# Altium schematic symbol library Capacitor_0603.SchLib: 60 symbols (part 1 of 2)
Pins are listed as number, name and electrical type; pins without a type are passive.

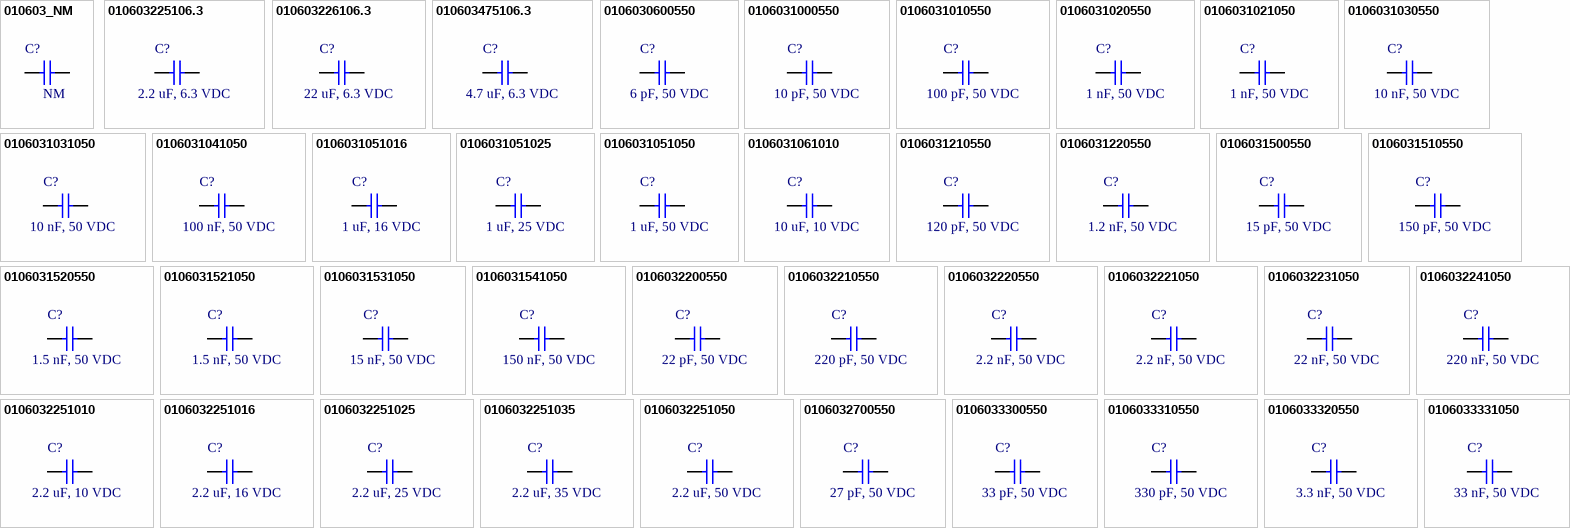
[diagram p0: symbols 010603_NM to 0106033331050]

## 010603_NM
designator C?, comment NM
CAP, size 0603, NM, N/A; Packaging: Tape and Reel; Capacitance: N/A; Supplier 1 URL: N/A; Supplier 2 URL: N/A; Supplier 3 URL: N/A; Tolerance: N/A; Voltage Rating DC: N/A; Value: NM; Supplier 1: N/A; Supplier 1 Part Number: N/A; Supplier 2: N/A; Supplier 2 Part Number: N/A; Supplier 3: thegioiic; Supplier 3 Part Number: N/A; Manufacturer: N/A; Manufacturer Part Number: N/A; ComponentLink1Description: Datasheet; ComponentLink1URL: N/A; Mount: SMD/SMT; Operating Temperature Max: + 85 C; Operating Temperature Min: - 40 C; Package / Case: 0603; LCSC Part #: N/A
footprint CAP_0603 (Chip Capacitor, 2-Leads, Body 1.80x0.80mm, IPC Medium Density)
pins: 1, 2

## 010603225106.3
designator C?, comment 2.2 uF, 6.3 VDC
CAP, size 0603, 2.2 uF, 6.3 VDC, 10%; Manufacturer: Samsung Electro-Mechanics; Manufacturer Part Number: CL10B225KQ8NNNC; Capacitance: 2.2 uF; Tolerance: +/-10%; Voltage Rating DC: 6.3 VDC; Value: 2.2 uF; Packaging: Tape and Reel; Supplier 1 URL: https://www.mouser.vn/ProductDetail/Samsung-Electro-Mechanics/CL10B225KQ8NNNC?qs=349EhDEZ59rhKTQnNCSlcg%3D%3D&utm_source=mouser-refine-download&utm_medium=file&utm_campaign=CL10B225KQ8NNNC&utm_content=Samsung-Electro-Mechanics; Supplier 2 URL: https://www.digikey.com/en/products/detail/samsung-electro-mechanics/cl10b225kq8nnnc/3887676; Supplier 3 URL: N/A; Supplier 1: Mouser; Supplier 1 Part Number: 187-CL10B225KQ8NNNC; Supplier 2: Digi-Key; Supplier 2 Part Number: 1276-2018-2-ND; Supplier 3: thegioiic; Supplier 3 Part Number: N/A; ComponentLink1Description: Datasheet; ComponentLink1URL: https://www.mouser.vn/datasheet/2/585/MLCC-1837944.pdf; Mount: SMD/SMT; Operating Temperature Max: + 85 C; Operating Temperature Min: - 40 C; Package / Case: 0603; LCSC Part #: N/A
footprint CAP_0603
signal-integrity model CapModel
simulation model C_Capacitor_Default (Model Description)
pins: 1, 2

## 010603226106.3
designator C?, comment 22 uF, 6.3 VDC
CAP, size 0603, 22 uF, 6.3 VDC, 10%; Manufacturer: Samsung Electro-Mechanics; Manufacturer Part Number: CL10A226KQ8NRNE; Capacitance: 22 uF; Tolerance: +/-10%; Voltage Rating DC: 6.3 VDC; Value: 22 uF; Packaging: Tape and Reel; Supplier 1 URL: https://www.mouser.vn/ProductDetail/Samsung-Electro-Mechanics/CL10A226KQ8NRNE?qs=NrXEK%2Fuukt63rpgsAsB8kg%3D%3D&utm_source=mouser-refine-download&utm_medium=file&utm_campaign=CL10A226KQ8NRNE&utm_content=Samsung-Electro-Mechanics; Supplier 2 URL: https://www.digikey.com/en/products/detail/samsung-electro-mechanics/cl10a226kq8nrne/3888525; Supplier 3 URL: N/A; Supplier 1: Mouser; Supplier 1 Part Number: 187-CL10A226KQ8NRNE; Supplier 2: Digi-Key; Supplier 2 Part Number: 1276-2867-2-ND; Supplier 3: thegioiic; Supplier 3 Part Number: N/A; ComponentLink1Description: Datasheet; ComponentLink1URL: https://www.mouser.vn/datasheet/2/585/MLCC-1837944.pdf; Mount: SMD/SMT; Operating Temperature Max: + 85 C; Operating Temperature Min: - 40 C; Package / Case: 0603; LCSC Part #: N/A
footprint CAP_0603
signal-integrity model CapModel
simulation model C_Capacitor_Default (Model Description)
pins: 1, 2

## 010603475106.3
designator C?, comment 4.7 uF, 6.3 VDC
CAP, size 0603, 4.7 uF, 6.3 VDC, 10%; Manufacturer: Samsung Electro-Mechanics; Manufacturer Part Number: CL10B475KQ8NQNC; Capacitance: 4.7 uF; Tolerance: +/-10%; Voltage Rating DC: 6.3 VDC; Value: 4.7 uF; Packaging: Tape and Reel; Supplier 1 URL: https://www.mouser.vn/ProductDetail/Samsung-Electro-Mechanics/CL10B475KQ8NQNC?qs=6tbHoouHnQxd6rcaSwpT7Q%3D%3D&utm_source=mouser-refine-download&utm_medium=file&utm_campaign=CL10B475KQ8NQNC&utm_content=Samsung-Electro-Mechanics; Supplier 2 URL: https://www.digikey.com/en/products/detail/samsung-electro-mechanics/cl10b475kq8nqnc/3887745; Supplier 3 URL: N/A; Supplier 1: Mouser; Supplier 1 Part Number: 187-CL10B475KQ8NQNC; Supplier 2: Digi-Key; Supplier 2 Part Number: 1276-2087-2-ND; Supplier 3: thegioiic; Supplier 3 Part Number: N/A; ComponentLink1Description: Datasheet; ComponentLink1URL: https://www.mouser.vn/datasheet/2/585/MLCC-1837944.pdf; Mount: SMD/SMT; Operating Temperature Max: + 85 C; Operating Temperature Min: - 40 C; Package / Case: 0603; LCSC Part #: N/A
footprint CAP_0603
signal-integrity model CapModel
simulation model C_Capacitor_Default (Model Description)
pins: 1, 2

## 0106030600550
designator C?, comment 6 pF, 50 VDC
CAP, size 0603, 6 pF, 50 VDC, 5%; Manufacturer: TDK; Manufacturer Part Number: CGA3E2NP01H060D080AA; Capacitance: 6 pF; Tolerance: +/-5%; Voltage Rating DC: 50 VDC; Value: 6 pF; Packaging: Tape and Reel; Supplier 1 URL: https://www.mouser.com/ProductDetail/TDK/CGA3E2NP01H060D080AA?qs=xLDY6iXSiQboN%2F6my%2FnNkQ%3D%3D&utm_source=mouser-refine-download&utm_medium=file&utm_campaign=CGA3E2NP01H060D080AA&utm_content=TDK; Supplier 2 URL: https://www.digikey.com/en/products/detail/tdk-corporation/cga3e2np01h060d080aa/3949663; Supplier 3 URL: N/A; Supplier 1: Mouser; Supplier 1 Part Number: 810-CGA3E2NP01H060DA; Supplier 2: Digi-Key; Supplier 2 Part Number: 445-12427-2-ND; Supplier 3: thegioiic; Supplier 3 Part Number: N/A; ComponentLink1Description: Datasheet; ComponentLink1URL: https://product.tdk.com/system/files/dam/doc/product/capacitor/ceramic/mlcc/catalog/mlcc_automotive_hightemp_en.pdf?ref_disty=mouser; Mount: SMD/SMT; Operating Temperature Max: + 85 C; Operating Temperature Min: - 40 C; Package / Case: 0603; LCSC Part #: N/A
footprint CAP_0603
signal-integrity model CapModel (Model Description)
simulation model C_Capacitor_Default (Model Description)
pins: 1, 2

## 0106031000550
designator C?, comment 10 pF, 50 VDC
CAP, size 0603, 10 pF, 50 VDC, 5%; Manufacturer: Samsung Electro-Mechanics; Manufacturer Part Number: CL10C100JB8NNNC; Capacitance: 10 pF; Tolerance: +/-5%; Voltage Rating DC: 50 VDC; Value: 10 pF; Packaging: Tape and Reel; Supplier 1 URL: https://www.mouser.vn/ProductDetail/Samsung-Electro-Mechanics/CL10C100JB8NNNC?qs=349EhDEZ59oiQHnsqhYH%2Fg%3D%3D; Supplier 2 URL: https://www.digikey.com/en/products/detail/samsung-electro-mechanics/cl10c100jb8nnnc/3886685?_gl=1*p9nbwi*_up*MQ..*_gs*MQ..&gclid=Cj0KCQiAi9rJBhCYARIsALyPDtvs-_MYtdCn0eZ4-At-85pl60JLecl7u4frgw5_LNfkKGjJD3xpc9AaAmGIEALw_wcB&gclsrc=aw.ds&gbraid=0AAAAADrbLlhn86auAEYHJNei1aMywzjur; Supplier 3 URL: N/A; Supplier 1: Mouser; Supplier 1 Part Number: 187-CL10C100JB8NNNC; Supplier 2: Digi-Key; Supplier 2 Part Number: 1276-1027-2-ND; Supplier 3: thegioiic; Supplier 3 Part Number: N/A; ComponentLink1Description: Datasheet; ComponentLink1URL: https://www.lcsc.com/datasheet/C1634.pdf; Mount: SMD/SMT; Operating Temperature Max: + 85 C; Operating Temperature Min: - 40 C; Package / Case: 0603; LCSC Part #: C1634
footprint CAP_0603
signal-integrity model CapModel (Model Description)
simulation model C_Capacitor_Default (Model Description)
pins: 1, 2

## 0106031010550
designator C?, comment 100 pF, 50 VDC
CAP, size 0603, 100 pF, 50 VDC, 5%; Manufacturer: Samsung Electro-Mechanics; Manufacturer Part Number: CL10C101JB8NNNC; Capacitance: 100 pF; Tolerance: +/-5%; Voltage Rating DC: 50 VDC; Value: 100 pF; Packaging: Tape and Reel; Supplier 1 URL: https://www.mouser.com/ProductDetail/Samsung-Electro-Mechanics/CL10C101JB8NNNC?qs=349EhDEZ59pXXooLigsK%2FQ%3D%3D; Supplier 2 URL: https://www.digikey.com/en/products/detail/samsung-electro-mechanics/cl10c101jb8nnnc/3886666; Supplier 3 URL: N/A; Supplier 1: Mouser; Supplier 1 Part Number: 187-CL10C101JB8NNNC; Supplier 2: Digi-Key; Supplier 2 Part Number: 1276-1008-2-ND; Supplier 3: thegioiic; Supplier 3 Part Number: N/A; ComponentLink1Description: Datasheet; ComponentLink1URL: https://www.lcsc.com/datasheet/C14858.pdf; Mount: SMD/SMT; Operating Temperature Max: + 85 C; Operating Temperature Min: - 40 C; Package / Case: 0603; LCSC Part #: C14858
footprint CAP_0603
signal-integrity model CapModel (Model Description)
simulation model C_Capacitor_Default (Model Description)
pins: 1, 2

## 0106031020550
designator C?, comment 1 nF, 50 VDC
CAP, size 0603, 1 nF, 50 VDC, 5%; Manufacturer: TDK; Manufacturer Part Number: CGA3E2NP01H102J080AA; Capacitance: 1 nF; Tolerance: +/-5%; Voltage Rating DC: 50 VDC; Value: 1 nF; Packaging: Tape and Reel; Supplier 1 URL: https://www.mouser.com/ProductDetail/TDK/CGA3E2NP01H102J080AA?qs=xLDY6iXSiQaozl9q8leaqQ%3D%3D&utm_source=mouser-refine-download&utm_medium=file&utm_campaign=CGA3E2NP01H102J080AA&utm_content=TDK; Supplier 2 URL: https://www.digikey.com/en/products/detail/tdk-corporation/cga3e2np01h102j080aa/3949621; Supplier 3 URL: N/A; Supplier 1: Mouser; Supplier 1 Part Number: 810-CGA3E2NP01H102JA; Supplier 2: Digi-Key; Supplier 2 Part Number: 445-12385-2-ND; Supplier 3: thegioiic; Supplier 3 Part Number: N/A; ComponentLink1Description: Datasheet; ComponentLink1URL: https://product.tdk.com/system/files/dam/doc/product/capacitor/ceramic/mlcc/catalog/mlcc_automotive_hightemp_en.pdf?ref_disty=mouser; Mount: SMD/SMT; Operating Temperature Max: + 85 C; Operating Temperature Min: - 40 C; Package / Case: 0603; LCSC Part #: N/A
footprint CAP_0603
signal-integrity model CapModel (Model Description)
simulation model C_Capacitor_Default (Model Description)
pins: 1, 2

## 0106031021050
designator C?, comment 1 nF, 50 VDC
CAP, size 0603, 1 nF, 50 VDC, 10%; Manufacturer: TDK; Manufacturer Part Number: CGA3E2X8R1H102K080AE; Capacitance: 1 nF; Tolerance: +/-10%; Voltage Rating DC: 50 VDC; Value: 1 nF; Packaging: Tape and Reel; Supplier 1 URL: https://www.mouser.com/ProductDetail/TDK/CGA3E2X8R1H102K080AE?qs=nQSIdc08i%252Bfmccrsr1TaaQ%3D%3D&utm_source=mouser-refine-download&utm_medium=file&utm_campaign=CGA3E2X8R1H102K080AE&utm_content=TDK; Supplier 2 URL: https://www.digikey.com/en/products/detail/tdk-corporation/cga3e2x8r1h102k080ae/5809329; Supplier 3 URL: N/A; Supplier 1: Mouser; Supplier 1 Part Number: 810-CGA3E2X8R1H102KA; Supplier 2: Digi-Key; Supplier 2 Part Number: 445-173764-2-ND; Supplier 3: thegioiic; Supplier 3 Part Number: N/A; ComponentLink1Description: Datasheet; ComponentLink1URL: https://product.tdk.com/system/files/dam/doc/product/capacitor/ceramic/mlcc/catalog/mlcc_automotive_soft_en.pdf?ref_disty=mouser; Mount: SMD/SMT; Operating Temperature Max: + 85 C; Operating Temperature Min: - 40 C; Package / Case: 0603; LCSC Part #: N/A
footprint CAP_0603
signal-integrity model CapModel
simulation model C_Capacitor_Default (Model Description)
pins: 1, 2

## 0106031030550
designator C?, comment 10 nF, 50 VDC
CAP, size 0603, 10 nF, 50 VDC, 5%; Manufacturer: TDK; Manufacturer Part Number: CGA3E2C0G1H103J080AE; Capacitance: 10 nF; Tolerance: +/-5%; Voltage Rating DC: 50 VDC; Value: 10 nF; Packaging: Tape and Reel; Supplier 1 URL: https://www.mouser.com/ProductDetail/TDK/CGA3E2C0G1H103J080AE?qs=P1JMDcb91o6ZkMITrWTUZQ%3D%3D&utm_source=mouser-refine-download&utm_medium=file&utm_campaign=CGA3E2C0G1H103J080AE&utm_content=TDK; Supplier 2 URL: https://www.digikey.com/en/products/detail/tdk-corporation/cga3e2c0g1h103j080ae/11697946; Supplier 3 URL: N/A; Supplier 1: Mouser; Supplier 1 Part Number: 810-CGA3E2C0G1H103J8; Supplier 2: Digi-Key; Supplier 2 Part Number: 445-CGA3E2C0G1H103J080AETR-ND; Supplier 3: thegioiic; Supplier 3 Part Number: N/A; ComponentLink1Description: Datasheet; ComponentLink1URL: https://product.tdk.com/system/files/dam/doc/product/capacitor/ceramic/mlcc/catalog/mlcc_automotive_soft_en.pdf?ref_disty=mouser; Mount: SMD/SMT; Operating Temperature Max: + 85 C; Operating Temperature Min: - 40 C; Package / Case: 0603; LCSC Part #: N/A
footprint CAP_0603
signal-integrity model CapModel (Model Description)
simulation model C_Capacitor_Default (Model Description)
pins: 1, 2

## 0106031031050
designator C?, comment 10 nF, 50 VDC
CAP, size 0603, 10 nF, 50 VDC, 10%; Manufacturer: TDK; Manufacturer Part Number: CGA3E2X8R1H103K080AA; Capacitance: 10 nF; Tolerance: +/-10%; Voltage Rating DC: 50 VDC; Value: 10 nF; Packaging: Tape and Reel; Supplier 1 URL: https://www.mouser.com/ProductDetail/TDK/CGA3E2X8R1H103K080AA?qs=NRhsANhppD89WrzFr8uamw%3D%3D&utm_source=mouser-refine-download&utm_medium=file&utm_campaign=CGA3E2X8R1H103K080AA&utm_content=TDK; Supplier 2 URL: https://www.digikey.com/en/products/detail/tdk-corporation/cga3e2x8r1h103k080aa/2443370; Supplier 3 URL: https://www.thegioiic.com/tu-gom-0603-10nf-50v; Supplier 1: Mouser; Supplier 1 Part Number: 810-CGA3E2X8R1H103K; Supplier 2: Digi-Key; Supplier 2 Part Number: 445-5892-2-ND; Supplier 3: thegioiic; Supplier 3 Part Number: N/A; ComponentLink1Description: Datasheet; ComponentLink1URL: https://product.tdk.com/system/files/dam/doc/product/capacitor/ceramic/mlcc/catalog/mlcc_automotive_hightemp_en.pdf?ref_disty=mouser; Mount: SMD/SMT; Operating Temperature Max: + 85 C; Operating Temperature Min: - 40 C; Package / Case: 0603; LCSC Part #: C100042
footprint CAP_0603
signal-integrity model CapModel
simulation model C_Capacitor_Default (Model Description)
pins: 1, 2

## 0106031041050
designator C?, comment 100 nF, 50 VDC
CAP, size 0603, 100 nF, 50 VDC, 10%; Manufacturer: TDK; Manufacturer Part Number: CGA3E3X8R1H104K080AE; Capacitance: 100 nF; Tolerance: +/-10%; Voltage Rating DC: 50 VDC; Value: 100 nF; Packaging: Tape and Reel; Supplier 1 URL: https://www.mouser.com/ProductDetail/TDK/CGA3E3X8R1H104K080AE?qs=nQSIdc08i%252Bd8g3IRRgU2bw%3D%3D&utm_source=mouser-refine-download&utm_medium=file&utm_campaign=CGA3E3X8R1H104K080AE&utm_content=TDK; Supplier 2 URL: https://www.digikey.com/en/products/detail/tdk-corporation/cga3e3x8r1h104k080ae/5809262; Supplier 3 URL: https://www.thegioiic.com/tu-gom-0603-100nf-0-1uf-50v; Supplier 1: Mouser; Supplier 1 Part Number: 810-CGA3E3X8R1H104KA; Supplier 2: Digi-Key; Supplier 2 Part Number: 445-173697-2-ND; Supplier 3: thegioiic; Supplier 3 Part Number: N/A; ComponentLink1Description: Datasheet; ComponentLink1URL: https://product.tdk.com/system/files/dam/doc/product/capacitor/ceramic/mlcc/catalog/mlcc_automotive_soft_en.pdf?ref_disty=mouser; Mount: SMD/SMT; Operating Temperature Max: + 85 C; Operating Temperature Min: - 40 C; Package / Case: 0603; LCSC Part #: C14663
footprint CAP_0603
signal-integrity model CapModel
simulation model C_Capacitor_Default (Model Description)
pins: 1, 2

## 0106031051016
designator C?, comment 1 uF, 16 VDC
CAP, size 0603, 1 uF, 16 VDC, 10%; Manufacturer: Samsung Electro-Mechanics; Manufacturer Part Number: CL10B105KO8NNWC; Capacitance: 1 uF; Tolerance: +/-10%; Voltage Rating DC: 16 VDC; Value: 1 uF; Packaging: Tape and Reel; Supplier 1 URL: https://www.mouser.vn/ProductDetail/Samsung-Electro-Mechanics/CL10B105KO8NNWC?qs=81r%252BiQLm7BT%252BXtc72qn1ug%3D%3D&utm_source=mouser-refine-download&utm_medium=file&utm_campaign=CL10B105KO8NNWC&utm_content=Samsung-Electro-Mechanics; Supplier 2 URL: https://www.digikey.com/en/products/detail/samsung-electro-mechanics/cl10b105ko8nnwc/16572783; Supplier 3 URL: https://www.thegioiic.com/tu-gom-0603-1uf-16v; Supplier 1: Mouser; Supplier 1 Part Number: 187-CL10B105KO8NNWC; Supplier 2: Digi-Key; Supplier 2 Part Number: 1276-CL10B105KO8NNWCTR-ND; Supplier 3: thegioiic; Supplier 3 Part Number: N/A; ComponentLink1Description: Datasheet; ComponentLink1URL: https://www.mouser.vn/datasheet/2/585/Samsung_MLCC_1837944-1929650.pdf; Mount: SMD/SMT; Operating Temperature Max: + 85 C; Operating Temperature Min: - 40 C; Package / Case: 0603; LCSC Part #: C1592
footprint CAP_0603
signal-integrity model CapModel
simulation model C_Capacitor_Default (Model Description)
pins: 1, 2

## 0106031051025
designator C?, comment 1 uF, 25 VDC
CAP, size 0603, 1 uF, 25 VDC, 10%; Manufacturer: Samsung Electro-Mechanics; Manufacturer Part Number: CL10A105KA8NNNC; Capacitance: 1 uF; Tolerance: +/-10%; Voltage Rating DC: 25 VDC; Value: 1 uF; Packaging: Tape and Reel; Supplier 1 URL: https://www.mouser.vn/ProductDetail/Samsung-Electro-Mechanics/CL10A105KA8NNNC?qs=hqM3L16%252BxldY%252BnK4KzDJVg%3D%3D&utm_source=mouser-refine-download&utm_medium=file&utm_campaign=CL10A105KA8NNNC&utm_content=Samsung-Electro-Mechanics; Supplier 2 URL: https://www.digikey.com/en/products/detail/samsung-electro-mechanics/cl10a105ka8nnnc/3886760; Supplier 3 URL: https://www.thegioiic.com/tu-gom-0603-1uf-25v; Supplier 1: Mouser; Supplier 1 Part Number: 187-CL10A105KA8NNNC; Supplier 2: Digi-Key; Supplier 2 Part Number: 1276-1102-2-ND; Supplier 3: thegioiic; Supplier 3 Part Number: N/A; ComponentLink1Description: Datasheet; ComponentLink1URL: https://www.mouser.vn/datasheet/2/585/MLCC-1837944.pdf; Mount: SMD/SMT; Operating Temperature Max: + 85 C; Operating Temperature Min: - 40 C; Package / Case: 0603; LCSC Part #: N/A
footprint CAP_0603
signal-integrity model CapModel
simulation model C_Capacitor_Default (Model Description)
pins: 1, 2

## 0106031051050
designator C?, comment 1 uF, 50 VDC
CAP, size 0603, 1 uF, 50 VDC, 10%; Manufacturer: Samsung Electro-Mechanics; Manufacturer Part Number: CL10A105KB8NNNC; Capacitance: 1 uF; Tolerance: +/-10%; Voltage Rating DC: 50 VDC; Value: 1 uF; Packaging: Tape and Reel; Supplier 1 URL: https://www.mouser.com/ProductDetail/TDK/CGA3E3X5R1H105K080AB?qs=NRhsANhppD%2F2%2FwbVN4GABg%3D%3D&utm_source=mouser-refine-download&utm_medium=file&utm_campaign=CGA3E3X5R1H105K080AB&utm_content=TDK; Supplier 2 URL: https://www.digikey.com/en/products/detail/samsung-electro-mechanics/cl10a105kb8nnnc/3887518; Supplier 3 URL: https://www.thegioiic.com/tu-gom-0603-1uf-50v; Supplier 1: Mouser; Supplier 1 Part Number: 187-CL10A105KB8NNNC; Supplier 2: Digi-Key; Supplier 2 Part Number: 1276-1860-2-ND; Supplier 3: thegioiic; Supplier 3 Part Number: N/A; ComponentLink1Description: Datasheet; ComponentLink1URL: https://www.lcsc.com/datasheet/C15849.pdf; Mount: SMD/SMT; Operating Temperature Max: + 85 C; Operating Temperature Min: - 40 C; Package / Case: 0603; LCSC Part #: C15849
footprint CAP_0603
signal-integrity model CapModel
simulation model C_Capacitor_Default (Model Description)
pins: 1, 2

## 0106031061010
designator C?, comment 10 uF, 10 VDC
CAP, size 0603, 10 uF, 10 VDC, 10%; Manufacturer: Samsung Electro-Mechanics; Manufacturer Part Number: CL10A106KP8NNNC; Capacitance: 10 uF; Tolerance: +/-10%; Voltage Rating DC: 10 VDC; Value: 10 uF; Packaging: Tape and Reel; Supplier 1 URL: https://www.mouser.vn/ProductDetail/Samsung-Electro-Mechanics/CL10A106KP8NNNC?qs=X6jEic%2FHinAlyfRHj7fKwg%3D%3D; Supplier 2 URL: https://www.digikey.com/en/products/detail/samsung-electro-mechanics/cl10a106kp8nnnc/3886850; Supplier 3 URL: https://www.thegioiic.com/tu-gom-0603-10uf-25v; Supplier 1: Mouser; Supplier 1 Part Number: 187-CL10A106KP8NNNC; Supplier 2: Digi-Key; Supplier 2 Part Number: 1276-1192-2-ND; Supplier 3: thegioiic; Supplier 3 Part Number: N/A; ComponentLink1Description: Datasheet; ComponentLink1URL: https://www.mouser.vn/datasheet/2/585/MLCC-1837944.pdf; Mount: SMD/SMT; Operating Temperature Max: + 85 C; Operating Temperature Min: - 40 C; Package / Case: 0603; LCSC Part #: C19702
footprint CAP_0603
signal-integrity model CapModel
simulation model C_Capacitor_Default (Model Description)
pins: 1, 2

## 0106031210550
designator C?, comment 120 pF, 50 VDC
CAP, size 0603, 120 pF, 50 VDC, 5%; Manufacturer: TDK; Manufacturer Part Number: CGA3E2C0G1H121J080AA; Capacitance: 120 pF; Tolerance: +/-5%; Voltage Rating DC: 50 VDC; Value: 120 pF; Packaging: Tape and Reel; Supplier 1 URL: https://www.mouser.com/ProductDetail/TDK/CGA3E2C0G1H121J080AA?qs=FxQuwy19cyBg4sbqrDD07w%3D%3D&utm_source=mouser-refine-download&utm_medium=file&utm_campaign=CGA3E2C0G1H121J080AA&utm_content=TDK; Supplier 2 URL: https://www.digikey.com/en/products/detail/tdk-corporation/cga3e2c0g1h121j080aa/2443119; Supplier 3 URL: N/A; Supplier 1: Mouser; Supplier 1 Part Number: 810-CGA3E2C0G1H121J; Supplier 2: Digi-Key; Supplier 2 Part Number: 445-5641-2-ND; Supplier 3: thegioiic; Supplier 3 Part Number: N/A; ComponentLink1Description: Datasheet; ComponentLink1URL: https://product.tdk.com/system/files/dam/doc/product/capacitor/ceramic/mlcc/catalog/mlcc_automotive_general_en.pdf?ref_disty=mouser; Mount: SMD/SMT; Operating Temperature Max: + 85 C; Operating Temperature Min: - 40 C; Package / Case: 0603; LCSC Part #: N/A
footprint CAP_0603
signal-integrity model CapModel (Model Description)
simulation model C_Capacitor_Default (Model Description)
pins: 1, 2

## 0106031220550
designator C?, comment 1.2 nF, 50 VDC
CAP, size 0603, 1.2 nF, 50 VDC, 5%; Manufacturer: YAGEO; Manufacturer Part Number: CC0603JRNPO9BN122; Capacitance: 1.2 nF; Tolerance: +/-5%; Voltage Rating DC: 50 VDC; Value: 1.2 nF; Packaging: Tape and Reel; Supplier 1 URL: https://www.mouser.com/ProductDetail/YAGEO/CC0603JRNPO9BN122?qs=zEY9bCHj09fOX5wo62FJ3g%3D%3D; Supplier 2 URL: https://www.digikey.com/en/products/detail/yageo/cc0603jrnpo9bn122/5883604; Supplier 3 URL: N/A; Supplier 1: Mouser; Supplier 1 Part Number: 603-CC0603JR9BN122; Supplier 2: Digi-Key; Supplier 2 Part Number: 311-3962-2-ND; Supplier 3: thegioiic; Supplier 3 Part Number: N/A; ComponentLink1Description: Datasheet; ComponentLink1URL: https://www.lcsc.com/datasheet/C576816.pdf; Mount: SMD/SMT; Operating Temperature Max: + 85 C; Operating Temperature Min: - 40 C; Package / Case: 0603; LCSC Part #: C576816
footprint CAP_0603
signal-integrity model CapModel (Model Description)
simulation model C_Capacitor_Default (Model Description)
pins: 1, 2

## 0106031500550
designator C?, comment 15 pF, 50 VDC
CAP, size 0603, 15 pF, 50 VDC, 5%; Manufacturer: TDK; Manufacturer Part Number: CGA3E2NP01H150J080AA; Capacitance: 15 pF; Tolerance: +/-5%; Voltage Rating DC: 50 VDC; Value: 15 pF; Packaging: Tape and Reel; Supplier 1 URL: https://www.mouser.com/ProductDetail/TDK/CGA3E2NP01H150J080AA?qs=xLDY6iXSiQaG7IFLqTiW9w%3D%3D&utm_source=mouser-refine-download&utm_medium=file&utm_campaign=CGA3E2NP01H150J080AA&utm_content=TDK; Supplier 2 URL: https://www.digikey.com/en/products/detail/tdk-corporation/cga3e2np01h150j080aa/3949629; Supplier 3 URL: N/A; Supplier 1: Mouser; Supplier 1 Part Number: 810-CGA3E2NP01H150JA; Supplier 2: Digi-Key; Supplier 2 Part Number: 445-12393-2-ND; Supplier 3: thegioiic; Supplier 3 Part Number: N/A; ComponentLink1Description: Datasheet; ComponentLink1URL: https://product.tdk.com/system/files/dam/doc/product/capacitor/ceramic/mlcc/catalog/mlcc_automotive_hightemp_en.pdf?ref_disty=mouser; Mount: SMD/SMT; Operating Temperature Max: + 85 C; Operating Temperature Min: - 40 C; Package / Case: 0603; LCSC Part #: N/A
footprint CAP_0603
signal-integrity model CapModel (Model Description)
simulation model C_Capacitor_Default (Model Description)
pins: 1, 2

## 0106031510550
designator C?, comment 150 pF, 50 VDC
CAP, size 0603, 150 pF, 50 VDC, 5%; Manufacturer: TDK; Manufacturer Part Number: CGA3E2NP01H151J080AA; Capacitance: 150 pF; Tolerance: +/-5%; Voltage Rating DC: 50 VDC; Value: 150 pF; Packaging: Tape and Reel; Supplier 1 URL: https://www.mouser.com/ProductDetail/TDK/CGA3E2NP01H151J080AA?qs=xLDY6iXSiQbM3h2lmj%252BEHw%3D%3D&utm_source=mouser-refine-download&utm_medium=file&utm_campaign=CGA3E2NP01H151J080AA&utm_content=TDK; Supplier 2 URL: https://www.digikey.com/en/products/detail/tdk-corporation/cga3e2np01h151j080aa/3949628; Supplier 3 URL: N/A; Supplier 1: Mouser; Supplier 1 Part Number: 810-CGA3E2NP01H151JA; Supplier 2: Digi-Key; Supplier 2 Part Number: 445-12392-2-ND; Supplier 3: thegioiic; Supplier 3 Part Number: N/A; ComponentLink1Description: Datasheet; ComponentLink1URL: https://product.tdk.com/system/files/dam/doc/product/capacitor/ceramic/mlcc/catalog/mlcc_automotive_hightemp_en.pdf?ref_disty=mouser; Mount: SMD/SMT; Operating Temperature Max: + 85 C; Operating Temperature Min: - 40 C; Package / Case: 0603; LCSC Part #: N/A
footprint CAP_0603
signal-integrity model CapModel (Model Description)
simulation model C_Capacitor_Default (Model Description)
pins: 1, 2

## 0106031520550
designator C?, comment 1.5 nF, 50 VDC
CAP, size 0603, 1.5 nF, 50 VDC, 5%; Manufacturer: YAGEO; Manufacturer Part Number: CC0603JRNPO9BN152; Capacitance: 1.5 nF; Tolerance: +/-5%; Voltage Rating DC: 50 VDC; Value: 1.5 nF; Packaging: Tape and Reel; Supplier 1 URL: https://www.mouser.com/ProductDetail/YAGEO/CC0603JRNPO9BN152?qs=57cj7OiSijmcfciZx00JGw%3D%3D; Supplier 2 URL: https://www.digikey.com/en/products/detail/yageo/cc0603jrnpo9bn152/5195177; Supplier 3 URL: N/A; Supplier 1: Mouser; Supplier 1 Part Number: 603-CC603JRNPO9BN152; Supplier 2: Digi-Key; Supplier 2 Part Number: 311-1768-2-ND; Supplier 3: thegioiic; Supplier 3 Part Number: N/A; ComponentLink1Description: Datasheet; ComponentLink1URL: https://www.lcsc.com/datasheet/C107039.pdf; Mount: SMD/SMT; Operating Temperature Max: + 85 C; Operating Temperature Min: - 40 C; Package / Case: 0603; LCSC Part #: C107039
footprint CAP_0603
signal-integrity model CapModel (Model Description)
simulation model C_Capacitor_Default (Model Description)
pins: 1, 2

## 0106031521050
designator C?, comment 1.5 nF, 50 VDC
CAP, size 0603, 1.5 nF, 50 VDC, 10%; Manufacturer: YAGEO; Manufacturer Part Number: CC0603KRX7R9BB152; Capacitance: 1.5 nF; Tolerance: +/-10%; Voltage Rating DC: 50 VDC; Value: 1.5 nF; Packaging: Tape and Reel; Supplier 1 URL: https://www.mouser.com/ProductDetail/YAGEO/CC0603KRX7R9BB152?qs=AgBp2OyFlx9EagODMtM1Bw%3D%3D; Supplier 2 URL: https://www.digikey.com/en/products/detail/yageo/cc0603krx7r9bb152/372857; Supplier 3 URL: N/A; Supplier 1: Mouser; Supplier 1 Part Number: 603-CC603KRX7R9BB152; Supplier 2: Digi-Key; Supplier 2 Part Number: 311-1184-2-ND; Supplier 3: thegioiic; Supplier 3 Part Number: N/A; ComponentLink1Description: Datasheet; ComponentLink1URL: https://www.lcsc.com/datasheet/C107039.pdf; Mount: SMD/SMT; Operating Temperature Max: + 85 C; Operating Temperature Min: - 40 C; Package / Case: 0603; LCSC Part #: C96090
footprint CAP_0603
signal-integrity model CapModel
simulation model C_Capacitor_Default (Model Description)
pins: 1, 2

## 0106031531050
designator C?, comment 15 nF, 50 VDC
CAP, size 0603, 15 nF, 50 VDC, 10%; Manufacturer: TDK; Manufacturer Part Number: CGA3E2X7R1H153K080AA; Capacitance: 15 nF; Tolerance: +/-10%; Voltage Rating DC: 50 VDC; Value: 15 nF; Packaging: Tape and Reel; Supplier 1 URL: https://www.mouser.com/ProductDetail/TDK/CGA3E2X7R1H153K080AA?qs=NRhsANhppD9%252BHOr2gRAOAw%3D%3D&utm_source=mouser-refine-download&utm_medium=file&utm_campaign=CGA3E2X7R1H153K080AA&utm_content=TDK; Supplier 2 URL: https://www.digikey.com/en/products/detail/tdk-corporation/cga3e2x7r1h153k080aa/2672816; Supplier 3 URL: N/A; Supplier 1: Mouser; Supplier 1 Part Number: 810-CGA3E2X7R1H153K; Supplier 2: Digi-Key; Supplier 2 Part Number: 445-6923-2-ND; Supplier 3: thegioiic; Supplier 3 Part Number: N/A; ComponentLink1Description: Datasheet; ComponentLink1URL: https://product.tdk.com/system/files/dam/doc/product/capacitor/ceramic/mlcc/catalog/mlcc_automotive_general_en.pdf?ref_disty=mouser; Mount: SMD/SMT; Operating Temperature Max: + 85 C; Operating Temperature Min: - 40 C; Package / Case: 0603; LCSC Part #: N/A
footprint CAP_0603
signal-integrity model CapModel
simulation model C_Capacitor_Default (Model Description)
pins: 1, 2

## 0106031541050
designator C?, comment 150 nF, 50 VDC
CAP, size 0603, 150 nF, 50 VDC, 10%; Manufacturer: TDK; Manufacturer Part Number: CGA3E3X5R1H154K080AB; Capacitance: 150 nF; Tolerance: +/-10%; Voltage Rating DC: 50 VDC; Value: 150 nF; Packaging: Tape and Reel; Supplier 1 URL: https://www.mouser.com/ProductDetail/TDK/CGA3E3X5R1H154K080AB?qs=xLDY6iXSiQbcO3mD7qcuig%3D%3D&utm_source=mouser-refine-download&utm_medium=file&utm_campaign=CGA3E3X5R1H154K080AB&utm_content=TDK; Supplier 2 URL: https://www.digikey.com/en/products/detail/tdk-corporation/cga3e3x5r1h154k080ab/3949736; Supplier 3 URL: N/A; Supplier 1: Mouser; Supplier 1 Part Number: 810-CGA3E3X5R1H154KB; Supplier 2: Digi-Key; Supplier 2 Part Number: 445-12500-2-ND; Supplier 3: thegioiic; Supplier 3 Part Number: N/A; ComponentLink1Description: Datasheet; ComponentLink1URL: https://product.tdk.com/system/files/dam/doc/product/capacitor/ceramic/mlcc/catalog/mlcc_automotive_general_en.pdf?ref_disty=mouser; Mount: SMD/SMT; Operating Temperature Max: + 85 C; Operating Temperature Min: - 40 C; Package / Case: 0603; LCSC Part #: N/A
footprint CAP_0603
signal-integrity model CapModel
simulation model C_Capacitor_Default (Model Description)
pins: 1, 2

## 0106032200550
designator C?, comment 22 pF, 50 VDC
CAP, size 0603, 22 pF, 50 VDC, 5%; Manufacturer: YAGEO; Manufacturer Part Number: CC0603JRNPO9BN220; Capacitance: 22 pF; Tolerance: +/-5%; Voltage Rating DC: 50 VDC; Value: 22 pF; Packaging: Tape and Reel; Supplier 1 URL: https://www.mouser.vn/ProductDetail/YAGEO/CC0603JRNPO9BN220?qs=vTakOoo5QyIVMYOUTI%2F4zA%3D%3D; Supplier 2 URL: https://www.digikey.com/en/products/detail/yageo/cc0603jrnpo9bn220/302796; Supplier 3 URL: N/A; Supplier 1: Mouser; Supplier 1 Part Number: 603-CC603JRNPO9BN220; Supplier 2: Digi-Key; Supplier 2 Part Number: 311-1062-2-ND; Supplier 3: thegioiic; Supplier 3 Part Number: N/A; ComponentLink1Description: Datasheet; ComponentLink1URL: https://lcsc.com/datasheet/lcsc_datasheet_2506131730_YAGEO-CC0603JRNPO9BN220_C105620.pdf; Mount: SMD/SMT; Operating Temperature Max: + 85 C; Operating Temperature Min: - 40 C; Package / Case: 0603; LCSC Part #: C105620
footprint CAP_0603
signal-integrity model CapModel (Model Description)
simulation model C_Capacitor_Default (Model Description)
pins: 1, 2

## 0106032210550
designator C?, comment 220 pF, 50 VDC
CAP, size 0603, 220 pF, 50 VDC, 5%; Manufacturer: YAGEO; Manufacturer Part Number: CC0603JRNPO9BN221; Capacitance: 220 pF; Tolerance: +/-5%; Voltage Rating DC: 50 VDC; Value: 220 pF; Packaging: Tape and Reel; Supplier 1 URL: https://www.mouser.vn/ProductDetail/YAGEO/CC0603JRNPO9BN221?qs=AgBp2OyFlx%2Fh%252BnEOuusS0w%3D%3D; Supplier 2 URL: https://www.digikey.com/en/products/detail/yageo/cc0603jrnpo9bn221/302807; Supplier 3 URL: N/A; Supplier 1: Mouser; Supplier 1 Part Number: 603-C0603JRNPO9BN221; Supplier 2: Digi-Key; Supplier 2 Part Number: 311-1073-2-ND; Supplier 3: thegioiic; Supplier 3 Part Number: N/A; ComponentLink1Description: Datasheet; ComponentLink1URL: https://lcsc.com/datasheet/lcsc_datasheet_2506131730_YAGEO-CC0603JRNPO9BN221_C106210.pdf; Mount: SMD/SMT; Operating Temperature Max: + 85 C; Operating Temperature Min: - 40 C; Package / Case: 0603; LCSC Part #: C106210
footprint CAP_0603
signal-integrity model CapModel (Model Description)
simulation model C_Capacitor_Default (Model Description)
pins: 1, 2

## 0106032220550
designator C?, comment 2.2 nF, 50 VDC
CAP, size 0603, 2.2 nF, 50 VDC, 5%; Manufacturer: TDK; Manufacturer Part Number: CGA3E2C0G1H222J080AE; Capacitance: 2.2 nF; Tolerance: +/-5%; Voltage Rating DC: 50 VDC; Value: 2.2 nF; Packaging: Tape and Reel; Supplier 1 URL: https://www.mouser.com/ProductDetail/TDK/CGA3E2C0G1H222J080AE?qs=P1JMDcb91o5KNu2GzASXrQ%3D%3D&utm_source=mouser-refine-download&utm_medium=file&utm_campaign=CGA3E2C0G1H222J080AE&utm_content=TDK; Supplier 2 URL: https://www.digikey.com/en/products/detail/tdk-corporation/cga3e2c0g1h222j080ae/11697925; Supplier 3 URL: N/A; Supplier 1: Mouser; Supplier 1 Part Number: 810-CGA3E2C0G1H222J8; Supplier 2: Digi-Key; Supplier 2 Part Number: 445-CGA3E2C0G1H222J080AETR-ND; Supplier 3: thegioiic; Supplier 3 Part Number: N/A; ComponentLink1Description: Datasheet; ComponentLink1URL: https://product.tdk.com/system/files/dam/doc/product/capacitor/ceramic/mlcc/catalog/mlcc_automotive_soft_en.pdf?ref_disty=mouser; Mount: SMD/SMT; Operating Temperature Max: + 85 C; Operating Temperature Min: - 40 C; Package / Case: 0603; LCSC Part #: N/A
footprint CAP_0603
signal-integrity model CapModel (Model Description)
simulation model C_Capacitor_Default (Model Description)
pins: 1, 2

## 0106032221050
designator C?, comment 2.2 nF, 50 VDC
CAP, size 0603, 2.2 nF, 50 VDC, 10%; Manufacturer: Samsung Electro-Mechanics; Manufacturer Part Number: CL10B222KB8NNNC; Capacitance: 2.2 nF; Tolerance: +/-10%; Voltage Rating DC: 50 VDC; Value: 2.2 nF; Packaging: Tape and Reel; Supplier 1 URL: https://www.mouser.com/ProductDetail/Samsung-Electro-Mechanics/CL10B222KB8NNNC?qs=349EhDEZ59paTDxSbjW1jA%3D%3D; Supplier 2 URL: https://www.digikey.com/en/products/detail/samsung-electro-mechanics/cl10b222kb8nnnc/3886768; Supplier 3 URL: N/A; Supplier 1: Mouser; Supplier 1 Part Number: 187-CL10B222KB8NNNC; Supplier 2: Digi-Key; Supplier 2 Part Number: 1276-1110-2-ND; Supplier 3: thegioiic; Supplier 3 Part Number: N/A; ComponentLink1Description: Datasheet; ComponentLink1URL: https://www.lcsc.com/datasheet/C16033.pdf; Mount: SMD/SMT; Operating Temperature Max: + 85 C; Operating Temperature Min: - 40 C; Package / Case: 0603; LCSC Part #: C16033
footprint CAP_0603
signal-integrity model CapModel
simulation model C_Capacitor_Default (Model Description)
pins: 1, 2

## 0106032231050
designator C?, comment 22 nF, 50 VDC
CAP, size 0603, 22 nF, 50 VDC, 10%; Manufacturer: TDK; Manufacturer Part Number: CGA3E2X7R1H223K080AE; Capacitance: 22 nF; Tolerance: +/-10%; Voltage Rating DC: 50 VDC; Value: 22 nF; Packaging: Tape and Reel; Supplier 1 URL: https://www.mouser.com/ProductDetail/TDK/CGA3E2X7R1H223K080AE?qs=nQSIdc08i%252Bf9AsEN7N%2FMeQ%3D%3D&utm_source=mouser-refine-download&utm_medium=file&utm_campaign=CGA3E2X7R1H223K080AE&utm_content=TDK; Supplier 2 URL: https://www.digikey.com/en/products/detail/tdk-corporation/cga3e2x7r1h223k080ae/5809261; Supplier 3 URL: https://www.thegioiic.com/tu-gom-0603-22nf-50v; Supplier 1: Mouser; Supplier 1 Part Number: 810-CGA3E2X7R1H223KA; Supplier 2: Digi-Key; Supplier 2 Part Number: 445-173696-2-ND; Supplier 3: thegioiic; Supplier 3 Part Number: N/A; ComponentLink1Description: Datasheet; ComponentLink1URL: https://product.tdk.com/system/files/dam/doc/product/capacitor/ceramic/mlcc/catalog/mlcc_automotive_soft_en.pdf?ref_disty=mouser; Mount: SMD/SMT; Operating Temperature Max: + 85 C; Operating Temperature Min: - 40 C; Package / Case: 0603; LCSC Part #: C106222
footprint CAP_0603
signal-integrity model CapModel
simulation model C_Capacitor_Default (Model Description)
pins: 1, 2

## 0106032241050
designator C?, comment 220 nF, 50 VDC
CAP, size 0603, 220 nF, 50 VDC, 10%; Manufacturer: TDK; Manufacturer Part Number: CGA3E3X7R1H224K080AE; Capacitance: 220 nF; Tolerance: +/-10%; Voltage Rating DC: 50 VDC; Value: 220 nF; Packaging: Tape and Reel; Supplier 1 URL: https://www.mouser.com/ProductDetail/TDK/CGA3E3X7R1H224K080AE?qs=nQSIdc08i%252Bd73MzLq310Yg%3D%3D&utm_source=mouser-refine-download&utm_medium=file&utm_campaign=CGA3E3X7R1H224K080AE&utm_content=TDK; Supplier 2 URL: https://www.digikey.com/en/products/detail/tdk-corporation/cga3e3x7r1h224k080ae/5809200; Supplier 3 URL: N/A; Supplier 1: Mouser; Supplier 1 Part Number: 810-CGA3E3X7R1H224KA; Supplier 2: Digi-Key; Supplier 2 Part Number: 445-173635-2-ND; Supplier 3: thegioiic; Supplier 3 Part Number: N/A; ComponentLink1Description: Datasheet; ComponentLink1URL: https://product.tdk.com/system/files/dam/doc/product/capacitor/ceramic/mlcc/catalog/mlcc_automotive_soft_en.pdf?ref_disty=mouser; Mount: SMD/SMT; Operating Temperature Max: + 85 C; Operating Temperature Min: - 40 C; Package / Case: 0603; LCSC Part #: N/A
footprint CAP_0603
signal-integrity model CapModel
simulation model C_Capacitor_Default (Model Description)
pins: 1, 2

## 0106032251010
designator C?, comment 2.2 uF, 10 VDC
CAP, size 0603, 2.2 uF, 10 VDC, 10%; Manufacturer: Samsung Electro-Mechanics; Manufacturer Part Number: CL10A225KP8NNWC; Capacitance: 2.2 uF; Tolerance: +/-10%; Voltage Rating DC: 10 VDC; Value: 2.2 uF; Packaging: Tape and Reel; Supplier 1 URL: https://www.mouser.vn/ProductDetail/Samsung-Electro-Mechanics/CL10A225KP8NNWC?qs=f6khj2Jg0Fj5oIVDjMV6rg%3D%3D&utm_source=mouser-refine-download&utm_medium=file&utm_campaign=CL10A225KP8NNWC&utm_content=Samsung-Electro-Mechanics; Supplier 2 URL: https://www.digikey.com/en/products/detail/samsung-electro-mechanics/cl10a225kp8nnwc/16572766; Supplier 3 URL: https://www.thegioiic.com/tu-gom-0603-2-2uf-10v; Supplier 1: Mouser; Supplier 1 Part Number: 187-CL10A225KP8NNWC; Supplier 2: Digi-Key; Supplier 2 Part Number: 1276-CL10A225KP8NNWCTR-ND; Supplier 3: thegioiic; Supplier 3 Part Number: N/A; ComponentLink1Description: Datasheet; ComponentLink1URL: https://www.mouser.vn/datasheet/2/585/Samsung_MLCC_1837944-1929650.pdf; Mount: SMD/SMT; Operating Temperature Max: + 85 C; Operating Temperature Min: - 40 C; Package / Case: 0603; LCSC Part #: N/A
footprint CAP_0603
signal-integrity model CapModel
simulation model C_Capacitor_Default (Model Description)
pins: 1, 2

## 0106032251016
designator C?, comment 2.2 uF, 16 VDC
CAP, size 0603, 2.2 uF, 16 VDC, 10%; Manufacturer: Samsung Electro-Mechanics; Manufacturer Part Number: CL10A225KO8NNNC; Capacitance: 2.2 uF; Tolerance: +/-10%; Voltage Rating DC: 16 VDC; Value: 2.2 uF; Packaging: Tape and Reel; Supplier 1 URL: https://www.mouser.com/ProductDetail/Samsung-Electro-Mechanics/CL10A225KO8NNNC?qs=hqM3L16%252BxlecoJxUp5hKOw%3D%3D; Supplier 2 URL: https://www.digikey.com/en/products/detail/samsung-electro-mechanics/cl10a225ko8nnnc/3886698; Supplier 3 URL: N/A; Supplier 1: Mouser; Supplier 1 Part Number: 187-CL10A225KO8NNNC; Supplier 2: Digi-Key; Supplier 2 Part Number: 1276-1040-2-ND; Supplier 3: thegioiic; Supplier 3 Part Number: N/A; ComponentLink1Description: Datasheet; ComponentLink1URL: https://www.mouser.vn/datasheet/2/585/MLCC-1837944.pdf; Mount: SMD/SMT; Operating Temperature Max: + 85 C; Operating Temperature Min: - 40 C; Package / Case: 0603; LCSC Part #: C23630
footprint CAP_0603
signal-integrity model CapModel
simulation model C_Capacitor_Default (Model Description)
pins: 1, 2

## 0106032251025
designator C?, comment 2.2 uF, 25 VDC
CAP, size 0603, 2.2 uF, 25 VDC, 10%; Manufacturer: Samsung Electro-Mechanics; Manufacturer Part Number: CL10A225KA8NNNC; Capacitance: 2.2 uF; Tolerance: +/-10%; Voltage Rating DC: 25 VDC; Value: 2.2 uF; Packaging: Tape and Reel; Supplier 1 URL: https://www.mouser.vn/en/ProductDetail/Samsung-Electro-Mechanics/CL10A225KA8NNNC?qs=X6jEic%2FHinDB6YiNUmmONA%3D%3D; Supplier 2 URL: https://www.digikey.com/en/products/detail/samsung-electro-mechanics/cl10a225ka8nnnc/3887537; Supplier 3 URL: https://www.thegioiic.com/tu-gom-0603-2-2uf-25v; Supplier 1: Mouser; Supplier 1 Part Number: 187-CL10A225KA8NNNC; Supplier 2: Digi-Key; Supplier 2 Part Number: 1276-1879-2-ND; Supplier 3: thegioiic; Supplier 3 Part Number: N/A; ComponentLink1Description: Datasheet; ComponentLink1URL: https://www.mouser.vn/datasheet/2/585/MLCC-1837944.pdf; Mount: SMD/SMT; Operating Temperature Max: + 85 C; Operating Temperature Min: - 40 C; Package / Case: 0603; LCSC Part #: C57895
footprint CAP_0603
signal-integrity model CapModel
simulation model C_Capacitor_Default (Model Description)
pins: 1, 2

## 0106032251035
designator C?, comment 2.2 uF, 35 VDC
CAP, size 0603, 2.2 uF, 35 VDC, 10%; Manufacturer: Samsung Electro-Mechanics; Manufacturer Part Number: CL10A225KL8NNNC; Capacitance: 2.2 uF; Tolerance: +/-10%; Voltage Rating DC: 35 VDC; Value: 2.2 uF; Packaging: Tape and Reel; Supplier 1 URL: https://www.mouser.vn/ProductDetail/Samsung-Electro-Mechanics/CL10A225KL8NNNC?qs=xZ%2FP%252Ba9zWqba%2FklSReM66A%3D%3D&utm_source=mouser-refine-download&utm_medium=file&utm_campaign=CL10A225KL8NNNC&utm_content=Samsung-Electro-Mechanics; Supplier 2 URL: https://www.digikey.com/en/products/detail/samsung-electro-mechanics/cl10a225kl8nnnc/5961210; Supplier 3 URL: N/A; Supplier 1: Mouser; Supplier 1 Part Number: 187-CL10A225KL8NNNC; Supplier 2: Digi-Key; Supplier 2 Part Number: 1276-6726-2-ND; Supplier 3: thegioiic; Supplier 3 Part Number: N/A; ComponentLink1Description: Datasheet; ComponentLink1URL: https://www.mouser.vn/datasheet/2/585/MLCC-1837944.pdf; Mount: SMD/SMT; Operating Temperature Max: + 85 C; Operating Temperature Min: - 40 C; Package / Case: 0603; LCSC Part #: N/A
footprint CAP_0603
signal-integrity model CapModel
simulation model C_Capacitor_Default (Model Description)
pins: 1, 2

## 0106032251050
designator C?, comment 2.2 uF, 50 VDC
CAP, size 0603, 2.2 uF, 50 VDC, 10%; Manufacturer: Samsung Electro-Mechanics; Manufacturer Part Number: CL10A225KB8NNNC; Capacitance: 2.2 uF; Tolerance: +/-10%; Voltage Rating DC: 50 VDC; Value: 2.2 uF; Packaging: Tape and Reel; Supplier 1 URL: https://www.mouser.vn/en/ProductDetail/Samsung-Electro-Mechanics/CL10A225KB8NNNC?qs=xZ%2FP%252Ba9zWqYJkP9V6lNdCQ%3D%3D; Supplier 2 URL: https://www.digikey.com/en/products/detail/samsung-electro-mechanics/cl10a225kb8nnnc/10479006; Supplier 3 URL: N/A; Supplier 1: Mouser; Supplier 1 Part Number: 187-CL10A225KB8NNNC; Supplier 2: Digi-Key; Supplier 2 Part Number: 1276-CL10A225KB8NNNCTR-ND; Supplier 3: thegioiic; Supplier 3 Part Number: N/A; ComponentLink1Description: Datasheet; ComponentLink1URL: https://www.mouser.vn/datasheet/2/585/MLCC-1837944.pdf; Mount: SMD/SMT; Operating Temperature Max: + 85 C; Operating Temperature Min: - 40 C; Package / Case: 0603; LCSC Part #: C913904
footprint CAP_0603
signal-integrity model CapModel
simulation model C_Capacitor_Default (Model Description)
pins: 1, 2

## 0106032700550
designator C?, comment 27 pF, 50 VDC
CAP, size 0603, 27 pF, 50 VDC, 5%; Manufacturer: Samsung Electro-Mechanics; Manufacturer Part Number: CL10C270JB81PNC; Capacitance: 27 pF; Tolerance: +/-5%; Voltage Rating DC: 50 VDC; Value: 27 pF; Packaging: Tape and Reel; Supplier 1 URL: https://www.mouser.com/ProductDetail/Samsung-Electro-Mechanics/CL10C270JB81PNC?qs=X6jEic%2FHinBDoSI%252BtJ5alQ%3D%3D; Supplier 2 URL: https://www.digikey.com/en/products/detail/samsung-electro-mechanics/cl10c270jb81pnc/3887905; Supplier 3 URL: N/A; Supplier 1: Mouser; Supplier 1 Part Number: 187-CL10C270JB81PNC; Supplier 2: Digi-Key; Supplier 2 Part Number: 1276-2247-2-ND; Supplier 3: thegioiic; Supplier 3 Part Number: N/A; ComponentLink1Description: Datasheet; ComponentLink1URL: https://product.tdk.com/system/files/dam/doc/product/capacitor/ceramic/mlcc/catalog/mlcc_automotive_hightemp_en.pdf?ref_disty=mouser; Mount: SMD/SMT; Operating Temperature Max: + 85 C; Operating Temperature Min: - 40 C; Package / Case: 0603; LCSC Part #: C346211
footprint CAP_0603
signal-integrity model CapModel (Model Description)
simulation model C_Capacitor_Default (Model Description)
pins: 1, 2

## 0106033300550
designator C?, comment 33 pF, 50 VDC
CAP, size 0603, 33 pF, 50 VDC, 5%; Manufacturer: TDK; Manufacturer Part Number: CGA3E2NP01H330J080AA; Capacitance: 33 pF; Tolerance: +/-5%; Voltage Rating DC: 50 VDC; Value: 33 pF; Packaging: Tape and Reel; Supplier 1 URL: https://www.mouser.com/ProductDetail/TDK/CGA3E2NP01H330J080AA?qs=xLDY6iXSiQZLs28ZlT4aFg%3D%3D&utm_source=mouser-refine-download&utm_medium=file&utm_campaign=CGA3E2NP01H330J080AA&utm_content=TDK; Supplier 2 URL: https://www.digikey.com/en/products/detail/tdk-corporation/cga3e2np01h330j080aa/3949645; Supplier 3 URL: N/A; Supplier 1: Mouser; Supplier 1 Part Number: 810-CGA3E2NP01H330JA; Supplier 2: Digi-Key; Supplier 2 Part Number: 445-12409-2-ND; Supplier 3: thegioiic; Supplier 3 Part Number: N/A; ComponentLink1Description: Datasheet; ComponentLink1URL: https://product.tdk.com/system/files/dam/doc/product/capacitor/ceramic/mlcc/catalog/mlcc_automotive_hightemp_en.pdf?ref_disty=mouser; Mount: SMD/SMT; Operating Temperature Max: + 85 C; Operating Temperature Min: - 40 C; Package / Case: 0603; LCSC Part #: N/A
footprint CAP_0603
signal-integrity model CapModel (Model Description)
simulation model C_Capacitor_Default (Model Description)
pins: 1, 2

## 0106033310550
designator C?, comment 330 pF, 50 VDC
CAP, size 0603, 330 pF, 50 VDC, 5%; Manufacturer: TDK; Manufacturer Part Number: CGA3E2C0G1H331J080AE; Capacitance: 330 pF; Tolerance: +/-5%; Voltage Rating DC: 50 VDC; Value: 330 pF; Packaging: Tape and Reel; Supplier 1 URL: https://www.mouser.com/ProductDetail/TDK/CGA3E2C0G1H331J080AE?qs=P1JMDcb91o7BZBrb2%2F%252BfEg%3D%3D&utm_source=mouser-refine-download&utm_medium=file&utm_campaign=CGA3E2C0G1H331J080AE&utm_content=TDK; Supplier 2 URL: https://www.digikey.com/en/products/detail/tdk-corporation/cga3e2c0g1h331j080ae/11697951; Supplier 3 URL: N/A; Supplier 1: Mouser; Supplier 1 Part Number: 810-CGA3E2C0G1H331J8; Supplier 2: Digi-Key; Supplier 2 Part Number: 445-CGA3E2C0G1H331J080AETR-ND; Supplier 3: thegioiic; Supplier 3 Part Number: N/A; ComponentLink1Description: Datasheet; ComponentLink1URL: https://product.tdk.com/system/files/dam/doc/product/capacitor/ceramic/mlcc/catalog/mlcc_automotive_soft_en.pdf?ref_disty=mouser; Mount: SMD/SMT; Operating Temperature Max: + 85 C; Operating Temperature Min: - 40 C; Package / Case: 0603; LCSC Part #: N/A
footprint CAP_0603
signal-integrity model CapModel (Model Description)
simulation model C_Capacitor_Default (Model Description)
pins: 1, 2

## 0106033320550
designator C?, comment 3.3 nF, 50 VDC
CAP, size 0603, 3.3 nF, 50 VDC, 5%; Manufacturer: TDK; Manufacturer Part Number: CGA3E2C0G1H332J080AE; Capacitance: 3.3 nF; Tolerance: +/-5%; Voltage Rating DC: 50 VDC; Value: 3.3 nF; Packaging: Tape and Reel; Supplier 1 URL: https://www.mouser.com/ProductDetail/TDK/CGA3E2C0G1H332J080AE?qs=P1JMDcb91o59%252BuVOytSHFw%3D%3D&utm_source=mouser-refine-download&utm_medium=file&utm_campaign=CGA3E2C0G1H332J080AE&utm_content=TDK; Supplier 2 URL: https://www.digikey.com/en/products/detail/tdk-corporation/cga3e2c0g1h332j080ae/11697916; Supplier 3 URL: N/A; Supplier 1: Mouser; Supplier 1 Part Number: 810-CGA3E2C0G1H332J8; Supplier 2: Digi-Key; Supplier 2 Part Number: 445-CGA3E2C0G1H332J080AETR-ND; Supplier 3: thegioiic; Supplier 3 Part Number: N/A; ComponentLink1Description: Datasheet; ComponentLink1URL: https://product.tdk.com/system/files/dam/doc/product/capacitor/ceramic/mlcc/catalog/mlcc_automotive_soft_en.pdf?ref_disty=mouser; Mount: SMD/SMT; Operating Temperature Max: + 85 C; Operating Temperature Min: - 40 C; Package / Case: 0603; LCSC Part #: N/A
footprint CAP_0603
signal-integrity model CapModel (Model Description)
simulation model C_Capacitor_Default (Model Description)
pins: 1, 2

## 0106033331050
designator C?, comment 33 nF, 50 VDC
CAP, size 0603, 33 nF, 50 VDC, 10%; Manufacturer: TDK; Manufacturer Part Number: CGA3E2X7R1H333K080AA; Capacitance: 33 nF; Tolerance: +/-10%; Voltage Rating DC: 50 VDC; Value: 33 nF; Packaging: Tape and Reel; Supplier 1 URL: https://www.mouser.com/ProductDetail/TDK/CGA3E2X7R1H333K080AA?qs=NRhsANhppD8XLu6u%252B%2FdPcg%3D%3D&utm_source=mouser-refine-download&utm_medium=file&utm_campaign=CGA3E2X7R1H333K080AA&utm_content=TDK; Supplier 2 URL: https://www.digikey.com/en/products/detail/tdk-corporation/cga3e2x7r1h333k080aa/2672817; Supplier 3 URL: N/A; Supplier 1: Mouser; Supplier 1 Part Number: 810-CGA3E2X7R1H333K; Supplier 2: Digi-Key; Supplier 2 Part Number: 445-6924-2-ND; Supplier 3: thegioiic; Supplier 3 Part Number: N/A; ComponentLink1Description: Datasheet; ComponentLink1URL: https://product.tdk.com/system/files/dam/doc/product/capacitor/ceramic/mlcc/catalog/mlcc_automotive_general_en.pdf?ref_disty=mouser; Mount: SMD/SMT; Operating Temperature Max: + 85 C; Operating Temperature Min: - 40 C; Package / Case: 0603; LCSC Part #: N/A
footprint CAP_0603
signal-integrity model CapModel
simulation model C_Capacitor_Default (Model Description)
pins: 1, 2

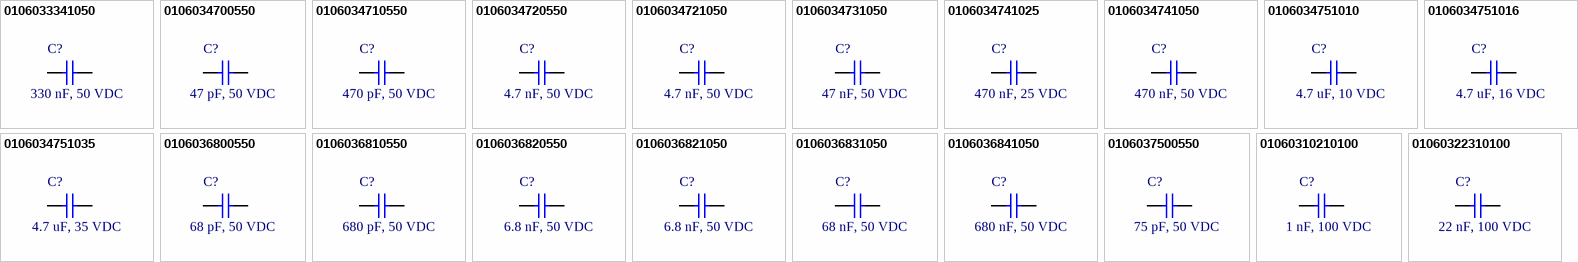
[diagram p1: symbols 0106033341050 to 01060322310100]

## 0106033341050
designator C?, comment 330 nF, 50 VDC
CAP, size 0603, 330 nF, 50 VDC, 10%; Manufacturer: Samsung Electro-Mechanics; Manufacturer Part Number: CL10B334KB8VPNC; Capacitance: 330 nF; Tolerance: +/-10%; Voltage Rating DC: 50 VDC; Value: 330 nF; Packaging: Tape and Reel; Supplier 1 URL: https://www.mouser.com/ProductDetail/Samsung-Electro-Mechanics/CL10B334KB8VPNC?qs=i8QVZAFTkqQYn3UYuONDGA%3D%3D; Supplier 2 URL: https://www.digikey.com/en/products/detail/samsung-electro-mechanics/cl10b334ka8vpnc/11487786; Supplier 3 URL: N/A; Supplier 1: Mouser; Supplier 1 Part Number: 187-CL10B334KB8VPNC; Supplier 2: Digi-Key; Supplier 2 Part Number: 1276-CL10B334KA8VPNCTR-ND; Supplier 3: thegioiic; Supplier 3 Part Number: N/A; ComponentLink1Description: Datasheet; ComponentLink1URL: https://www.lcsc.com/datasheet/C22380013.pdf; Mount: SMD/SMT; Operating Temperature Max: + 85 C; Operating Temperature Min: - 40 C; Package / Case: 0603; LCSC Part #: C22380013
footprint CAP_0603
signal-integrity model CapModel
simulation model C_Capacitor_Default (Model Description)
pins: 1, 2

## 0106034700550
designator C?, comment 47 pF, 50 VDC
CAP, size 0603, 47 pF, 50 VDC, 5%; Manufacturer: TDK; Manufacturer Part Number: CGA3E2NP01H470J080AA; Capacitance: 47 pF; Tolerance: +/-5%; Voltage Rating DC: 50 VDC; Value: 47 pF; Packaging: Tape and Reel; Supplier 1 URL: https://www.mouser.com/ProductDetail/TDK/CGA3E2NP01H470J080AA?qs=xLDY6iXSiQafbKrKYP6n6w%3D%3D&utm_source=mouser-refine-download&utm_medium=file&utm_campaign=CGA3E2NP01H470J080AA&utm_content=TDK; Supplier 2 URL: https://www.digikey.com/en/products/detail/tdk-corporation/cga3e2np01h470j080aa/3949653; Supplier 3 URL: N/A; Supplier 1: Mouser; Supplier 1 Part Number: 810-CGA3E2NP01H470JA; Supplier 2: Digi-Key; Supplier 2 Part Number: 445-12417-2-ND; Supplier 3: thegioiic; Supplier 3 Part Number: N/A; ComponentLink1Description: Datasheet; ComponentLink1URL: https://product.tdk.com/system/files/dam/doc/product/capacitor/ceramic/mlcc/catalog/mlcc_automotive_hightemp_en.pdf?ref_disty=mouser; Mount: SMD/SMT; Operating Temperature Max: + 85 C; Operating Temperature Min: - 40 C; Package / Case: 0603; LCSC Part #: N/A
footprint CAP_0603
signal-integrity model CapModel (Model Description)
simulation model C_Capacitor_Default (Model Description)
pins: 1, 2